# Altium footprint library GPSR_v3.PcbLib: 33 footprints (part 1 of 3)
Each footprint in its own frame and in the unit in brackets; x right, y up, seen from the top. Pads: shape width x height; smd on the part's side, far side on the other; paste and mask are expansions set on the pad; w line width, h text height; cw(c..) or ccw(c..) is an arc to the next point about the centre after c.
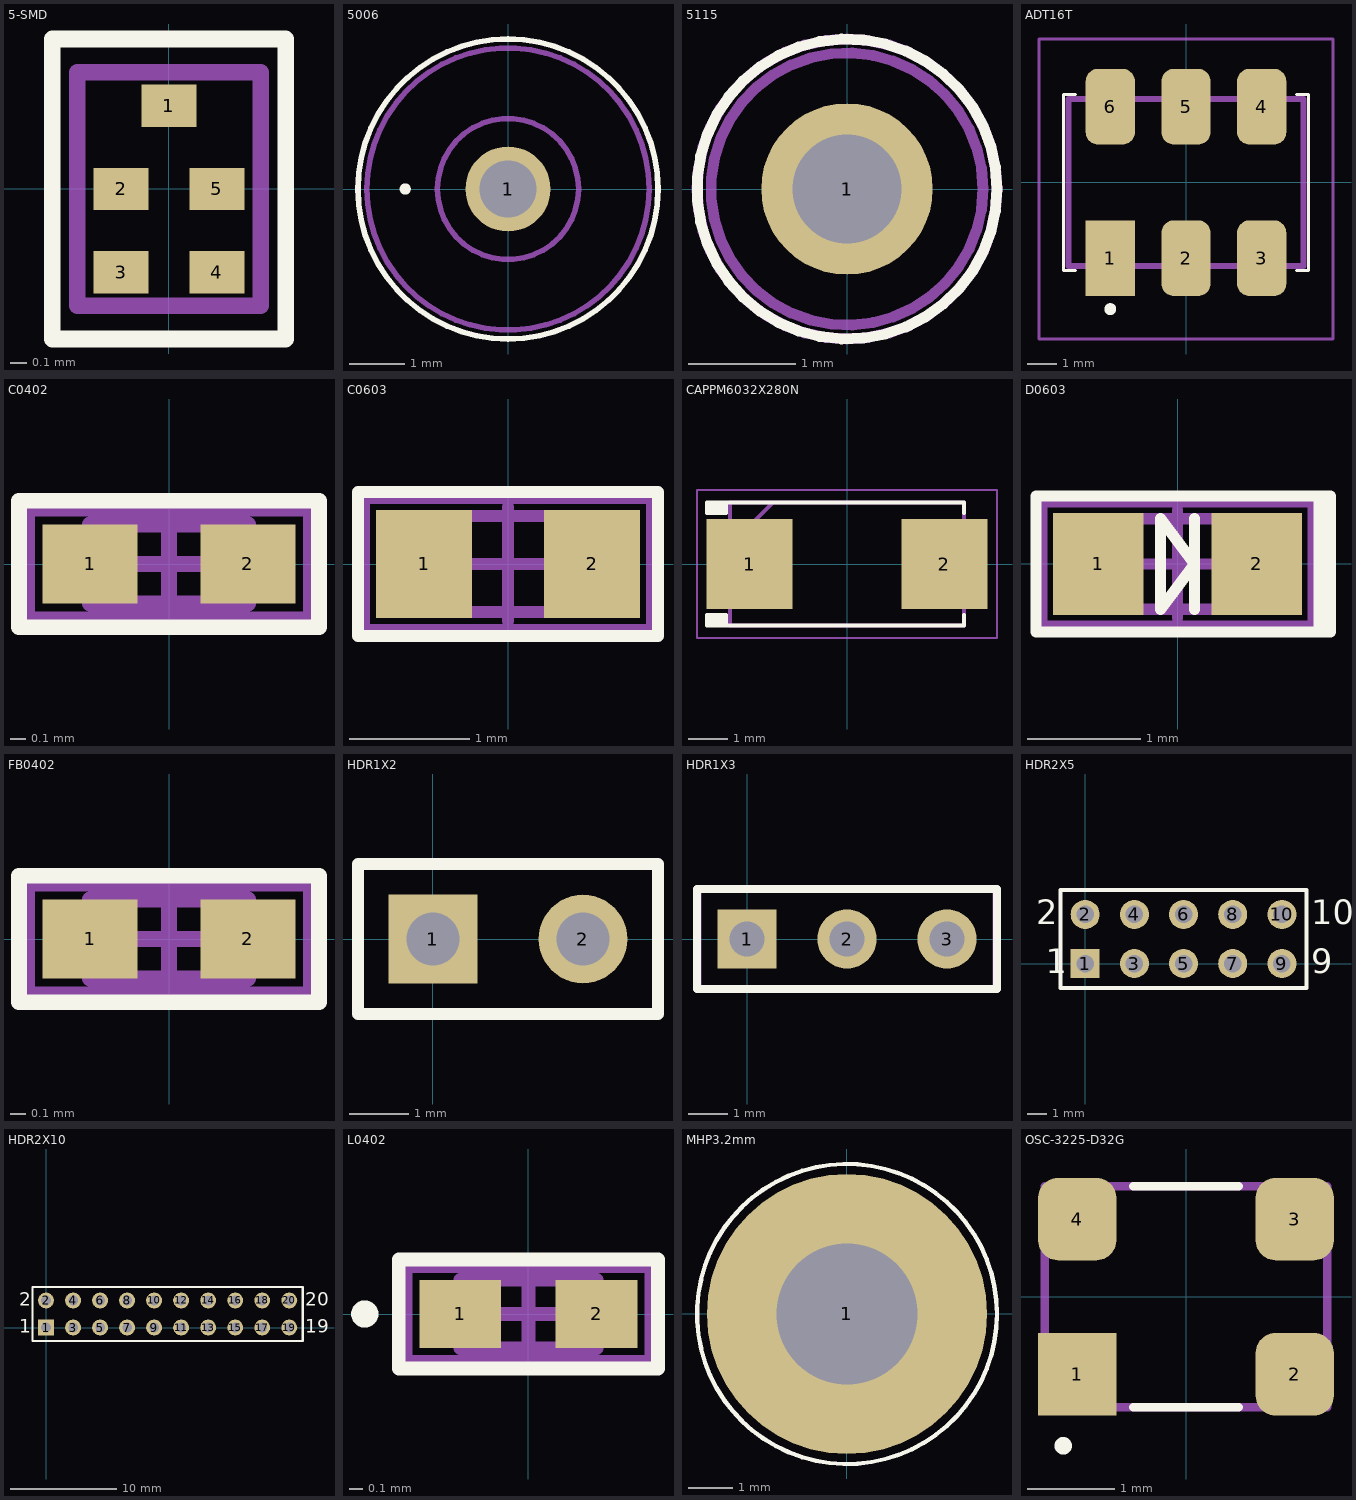
[diagram p0: the footprints below, top view; thin cyan lines are the x and y axes]

## 5-SMD [mil] "5-SMD; 1.4 x 1.1 x 0.55 mm"
height 283.46
pads (5):
  rect 13x10 smd: 1(0,19.68) 2(-11.32,0) 3(-11.32,-19.68) 4(11.32,-19.68) 5(11.32,0)
Top Overlay:
  lines w3.94: -27.56,-35.43 -27.56,35.43 27.56,35.43 27.56,-35.43 -27.56,-35.43
Mechanical 13:
  lines w3.94: -21.65,-27.56 21.66,-27.56 21.66,27.56 -21.65,27.56 -21.65,-27.56
3D body: height 31.5, standoff 0, extent -21.65,-27.56 21.66,27.56

## 5006 [mm]
height 7.2
pads (1):
  round 1.53 hole 1.02: 1(0,0)
Top Overlay:
  circle w0.1: c0,0 r2.7
  lines w0.1: -1.9,0 ccw(c-1.85,0) -1.8,0 ccw(c-1.85,0) -1.9,0
Mechanical 13:
  lines w0.1: -1.27,0 cw(c0,0) 1.27,0 cw(c0,0) -1.27,0
Mechanical 15:
  circle w0.1: c0,0 r2.54
3D body: height 4.57, standoff -3.05, extent -1.27,-1.27 1.27,1.27

## 5115 [mm]
pads (1):
  round 1.6 hole 1.02: 1(0,0)
Top Overlay:
  circle w0.1: c0,0 r1.4
Mechanical 13:
  lines w0.1: -1.4,0 ccw(c0,0) 1.4,0 ccw(c0,0) -1.4,0
Mechanical 15:
  circle w0.1: c0,0 r1.27
3D body: height 4.57, standoff -3.05, extent -1.27,-1.27 1.27,1.27

## ADT16T [mm]
height 7.2
pads (6):
  rect 1.65x2.54 smd: 1(-2.54,-2.54)
  rrect50% 1.65x2.54 smd: 2(0,-2.54) 3(2.54,-2.54) 4(2.54,2.54) 5(0,2.54) 6(-2.54,2.54)
Top Overlay:
  circle w0.2: c-2.54,-4.25 r0.1
  lines w0.1: -3.7,-2.95 -4.1,-2.95 -4.1,2.95 -3.7,2.95 ; 3.7,-2.95 4.1,-2.95 4.1,2.95 3.7,2.95
Mechanical 13:
  lines w0.2: -3.935,-2.795 -3.935,2.795 3.935,2.795 3.935,-2.795 -3.935,-2.795
Mechanical 15:
  lines w0.1: -4.935,-5.25 -4.935,4.81 4.935,4.81 4.935,-5.25 -4.935,-5.25
3D body: height 5.33, standoff 0, extent -3.935,-3.645 3.935,3.645

## C0402 [mm] "Chip Capacitor, Body 1.0x0.5mm, IPC High Density"
height 1.3
pads (2):
  rect 0.6x0.5 smd: 1(-0.5,0) 2(0.5,0)
Top Overlay:
  lines w0.1: -0.95,-0.4 0.95,-0.4 0.95,0.4 -0.95,0.4 -0.95,-0.4
Mechanical 13:
  lines w0.1: -0.5,-0.25 0.5,-0.25 0.5,0.25 -0.5,0.25 -0.5,-0.25
Mechanical 15:
  lines w0.1: -0.3,0 0.3,0 ; 0,-0.3 0,0.3 ; -0.9,-0.35 0.9,-0.35 0.9,0.35 -0.9,0.35 -0.9,-0.35
3D body: height 0.56, standoff 0, extent -0.5,-0.25 0.5,0.25

## C0603 [mm] "Chip Capacitor, Body 1.6x0.8mm, IPC High Density"
height 1.3
pads (2):
  rect 0.8x0.9 smd: 1(-0.7,0) 2(0.7,0)
Top Overlay:
  lines w0.1: -1.25,-0.6 -1.25,0.6 1.25,0.6 1.25,-0.6 -1.25,-0.6
Mechanical 13:
  lines w0.1: -0.8,-0.4 0.8,-0.4 0.8,0.4 -0.8,0.4 -0.8,-0.4
Mechanical 15:
  lines w0.1: -0.475,0 0.475,0 ; 0,-0.475 0,0.475 ; -1.2,-0.55 -1.2,0.55 1.2,0.55 1.2,-0.55 -1.2,-0.55
3D body: height 0.9, standoff 0, extent -0.8,-0.405 0.8,0.405

## CAPPM6032X280N [mm]
height 7.2
pads (2):
  rect 2.2x2.3 smd: 1(-2.5,0) 2(2.5,0)
Top Overlay:
  rectangle: -3.6,-1.575 -3.1,-1.31
  rectangle: -3.6,1.31 -3.1,1.575
  lines w0.1: -3.1,-1.575 -3.1,-1.31 -3.6,-1.31 -3.6,-1.575 3,-1.575 3,-1.31 ; -3.1,1.575 -3.1,1.31 -3.6,1.31 -3.6,1.575 3,1.575 3,1.31
Mechanical 13:
  lines w0.1: -3,0.475 -1.9,1.575 ; -3,-1.575 -3,1.575 3,1.575 3,-1.575 -3,-1.575
Mechanical 15:
  lines w0.05: -3.85,-1.9 -3.85,1.9 3.85,1.9 3.85,-1.9 -3.85,-1.9
3D body: height 2.8, standoff 0, extent -3,-1.575 3,1.575

## D0603 [mm] "Chip Diode, Body 1.6x0.8mm, IPC High Density"
height 0.8
pads (2):
  rect 0.8x0.9 smd: 1(-0.7,0) 2(0.7,0)
Top Overlay:
  rectangle: 1.2,-0.6 1.4,0.6
  lines w0.1: 0.15,-0.4 0.15,0.4 ; 1.35,-0.6 -1.25,-0.6 -1.25,0.6 1.35,0.6 ; -0.15,-0.4 0.15,0 -0.15,0.4 -0.15,-0.4
Mechanical 13:
  lines w0.1: -0.8,-0.4 -0.8,0.4 0.8,0.4 0.8,-0.4 -0.8,-0.4
Mechanical 15:
  lines w0.1: -0.475,0 0.475,0 ; 0,-0.475 0,0.475 ; -1.2,-0.55 -1.2,0.55 1.2,0.55 1.2,-0.55 -1.2,-0.55
3D body: height 0.58, standoff -0.01, extent -0.8,-0.4 0.8,0.4

## FB0402 [mm] "Chip Ferrite Bead, Body 1.0x0.5mm, IPC High Density"
height 0.55
pads (2):
  rect 0.6x0.5 smd: 1(-0.5,0) 2(0.5,0)
Top Overlay:
  lines w0.1: -0.95,-0.4 -0.95,0.4 0.95,0.4 0.95,-0.4 -0.95,-0.4
Mechanical 13:
  lines w0.1: -0.5,-0.25 -0.5,0.25 0.5,0.25 0.5,-0.25 -0.5,-0.25
Mechanical 15:
  lines w0.1: -0.3,0 0.3,0 ; 0,-0.3 0,0.3 ; -0.9,-0.35 -0.9,0.35 0.9,0.35 0.9,-0.35 -0.9,-0.35
3D body: height 0.5, standoff 0, extent -0.5,-0.25 0.5,0.25

## HDR1X2 [mm] "Connector; Header; 2 Position"
height 7.2
pads (2):
  rect 1.5x1.5 hole 0.9: 1(0,0)
  round 1.5 hole 0.9: 2(2.54,0)
Top Overlay:
  lines w0.2: -1.27,-1.27 -1.27,1.27 3.81,1.27 3.81,-1.27 -1.27,-1.27
Mechanical 13:
  lines w0.1: -1.27,-1.24 3.81,-1.24 3.81,1.24 -1.27,1.24 -1.27,-1.24
3D body: height 8.38, standoff -2.54, extent -1.27,-1.24 3.81,1.24

## HDR1X3 [mm] "Connector; Header; 3 Position"
height 7.2
pads (3):
  rect 1.5x1.5 hole 0.9: 1(0,0)
  round 1.5 hole 0.9: 2(2.54,0) 3(5.08,0)
Top Overlay:
  lines w0.2: -1.27,-1.27 -1.27,1.27 6.35,1.27 6.35,-1.27 -1.27,-1.27
Mechanical 13:
  lines w0.1: -1.206,-1.244 -1.206,1.245 6.287,1.245 6.287,-1.244 -1.206,-1.244
3D body: height 8.58, standoff -2.34, extent -1.206,-1.244 6.287,1.245

## HDR2X5 [mm] "Connector; Header; 5x2 Position"
height 7.2
pads (10):
  rect 1.5x1.5 hole 0.9: 1(0,0)
  round 1.5 hole 0.9: 2(0,2.54) 3(2.54,0) 4(2.54,2.54) 5(5.08,0) 6(5.08,2.54) 7(7.62,0) 8(7.62,2.54) 9(10.16,0) 10(10.16,2.54)
Top Overlay:
  lines w0.2: -1.27,-1.27 11.43,-1.27 11.43,3.81 -1.27,3.81 -1.27,-1.27
  text "10" at 11.684,2.032 h1.27
  text "9" at 11.684,-0.508 h1.27
  text "1" at -2.032,-0.508 h1.27
  text "2" at -2.54,2.032 h1.27
Mechanical 13:
  lines w0.1: -1.27,-1.205 -1.27,3.745 11.43,3.745 11.43,-1.205 -1.27,-1.205
3D body: height 8.38, standoff -2.92, extent -1.27,-1.205 11.43,3.745

## HDR2X10 [mm] "Connector; Header; 10x2 Position"
height 7.2
pads (20):
  rect 1.5x1.5 hole 0.9: 1(0,0)
  round 1.5 hole 0.9: 2(0,2.54) 3(2.54,0) 4(2.54,2.54) 5(5.08,0) 6(5.08,2.54) 7(7.62,0) 8(7.62,2.54) 9(10.16,0) 10(10.16,2.54) 11(12.7,0) 12(12.7,2.54) 13(15.24,0) 14(15.24,2.54) 15(17.78,0) 16(17.78,2.54) 17(20.32,0) 18(20.32,2.54) 19(22.86,0) 20(22.86,2.54)
Top Overlay:
  lines w0.2: -1.27,-1.27 -1.27,3.81 0.635,3.81 24.13,3.81 24.13,-1.27 0.635,-1.27 -1.27,-1.27
  text "2" at -2.54,2.032 h1.27
  text "1" at -2.54,-0.508 h1.27
  text "19" at 24.384,-0.508 h1.27
  text "20" at 24.384,2.032 h1.27
Mechanical 13:
  lines w0.1: 24.13,3.78 -1.27,3.78 -1.27,-1.24 24.13,-1.24 24.13,3.781
3D body: height 8.38, standoff -2.54, extent -1.27,-1.24 24.13,3.78

## L0402 [mm] "Chip Inductor, Body 1.0x0.5mm, IPC High Density"
height 0.55
pads (2):
  rect 0.6x0.5 smd: 1(-0.5,0) 2(0.5,0)
Top Overlay:
  circle w0.1: c-1.2,0 r0.05
  lines w0.1: -0.95,-0.4 0.95,-0.4 0.95,0.4 -0.95,0.4 -0.95,-0.4
Mechanical 13:
  lines w0.1: -0.5,-0.25 0.5,-0.25 0.5,0.25 -0.5,0.25 -0.5,-0.25
Mechanical 15:
  lines w0.1: -0.3,0 0.3,0 ; 0,-0.3 0,0.3 ; -0.9,-0.35 0.9,-0.35 0.9,0.35 -0.9,0.35 -0.9,-0.35
3D body: height 0.5, standoff 0, extent -0.5,-0.25 0.5,0.25

## MHP3.2mm [mm] "Mounting Hole Plated 3.2mm"
height 7.2
pads (1):
  round 6.35 hole 3.2: 1(0,0)
Top Overlay:
  circle w0.1: c0,0 r3.4
Bottom Overlay:
  circle w0.1: c0,0 r3.4

## OSC-3225-D32G [mm]
height 7.2
pads (4):
  rect 0.89x0.94 smd: 1(-1.24,-0.885)
  rrect50% 0.89x0.94 smd: 2(1.24,-0.885) 3(1.24,0.885) 4(-1.24,0.885)
Top Overlay:
  circle w0.1: c-1.4,-1.7 r0.05
  lines w0.1: -0.6,-1.26 0.6,-1.26 ; -0.6,1.26 0.6,1.26
Mechanical 13:
  lines w0.1: -1.61,-1.26 -1.61,1.26 1.61,1.26 1.61,-1.26 -1.61,-1.26
3D body: height 1.1, standoff 0, extent -1.61,-1.26 1.61,1.26